# EAGLE library part IRS21864PBF (library International_Rectifier_By_element14_Batch_1)
HIGH AND LOW SIDE DRIVER
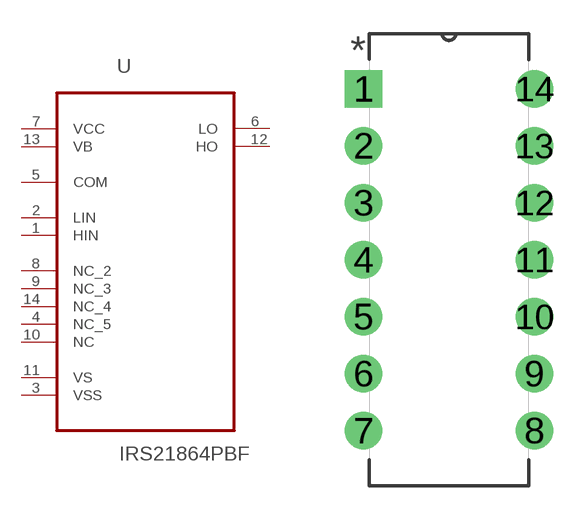
[diagram p96: symbol with the pads of DIP254P762X533-14; footprint DIP254P762X533-14]

Designator prefix U

## IRS21864PBF (MPN: IRS21864PBF; OC_FARNELL: 1688538; OC_NEWARK: 21M6613; PACKAGE: PDIP-14; SUPPLIER: INTERNATIONAL RECTIFIER)  [DIP254P762X533-14]
1  HIN  in
2  LIN  in
3  VSS  pwr
4  NC_5  nc
5  COM  pas
6  LO  out
7  VCC  pwr
8  NC_2  nc
9  NC_3  nc
10  NC  nc
11  VS  pwr
12  HO  out
13  VB  pwr
14  NC_4  nc

## Footprint DIP254P762X533-14 (pad centres in mm)
drill 1.118 square: 1 -7.62,15.24
drill 1.118: 2 -7.62,12.7; 3 -7.62,10.16; 4 -7.62,7.62; 5 -7.62,5.08; 6 -7.62,2.54; 7 -7.62,0; 8 0,0; 9 0,2.54; 10 0,5.08; 11 0,7.62; 12 0,10.16; 13 0,12.7; 14 0,15.24